# Altium footprint library biblioteca_acionador.PcbLib: 15 footprints
Each footprint in its own frame and in the unit in brackets; x right, y up, seen from the top. Pads: shape width x height; smd on the part's side, far side on the other; paste and mask are expansions set on the pad; w line width, h text height; cw(c..) or ccw(c..) is an arc to the next point about the centre after c.
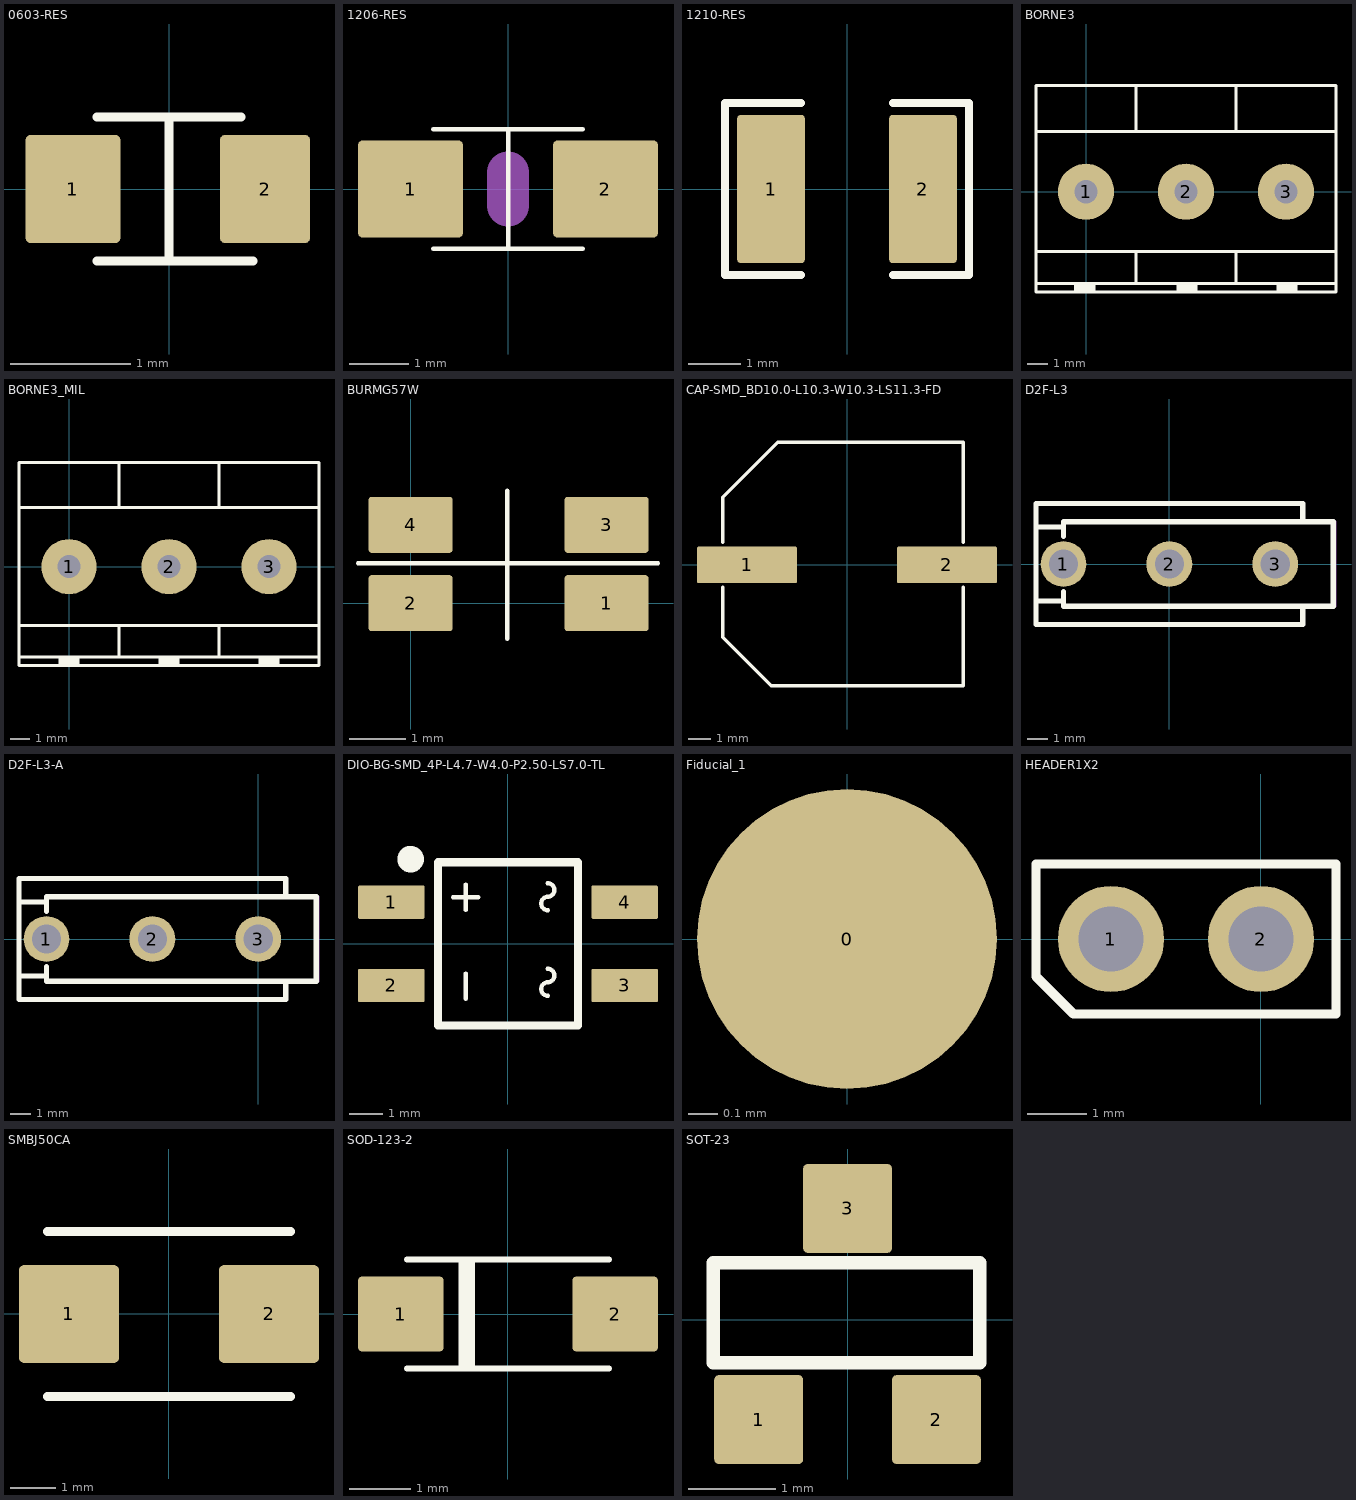
[diagram p0: the footprints below, top view; thin cyan lines are the x and y axes]

## 0603-RES [mm]
height 0.55
pads (2):
  rrect10% 0.79x0.9 smd: 1(-0.8,0)
  rrect10% 0.75x0.9 smd: 2(0.8,0)
Top Overlay:
  lines w0.076: -0.6,-0.6 0.7,-0.6 ; -0.6,0.6 0.6,0.6 ; 0,-0.6 0,0 0,0.6
3D body "RES0603.STEP": height 0.45, standoff 0, extent -0.813,-0.406 0.787,0.394

## 1206-RES [mil]
pads (2):
  rrect10% 70x65 smd: 1(-65,0) 2(65,0)
Top Overlay:
  lines w3: -50,-40 0,-40 ; -50,40 0,40 ; 50,-40 0,-40 ; 50,40 0,40 ; 0,-40 0,0 0,40
Mechanical 2:
  lines w28: 0,-11 0,11
Mechanical 15:
  rectangle: -100,-26 -30,27
  rectangle: 30,-26 100,27
3D body "RES-SMD-1206.STEP": height 39.45, standoff 0, extent -63.39,-31.89 62.6,31.1

## 1210-RES [mm]
pads (2):
  rrect10% 1.283x2.808 smd paste-100 mask+0.051: 1(-1.441,0) 2(1.441,0)
Top Overlay:
  lines w0.152: -0.876,-1.633 -2.311,-1.633 -2.311,1.633 -0.876,1.633 ; 0.876,-1.633 2.311,-1.633 2.311,1.633 0.876,1.633
Top Paste:
  region: 0.8,-1.304 0.8,-0.577 0.9,-0.477 1.136,-0.477 1.236,-0.377 1.236,0.377 1.136,0.477 0.9,0.477 0.8,0.577 0.8,1.304 0.9,1.404 1.983,1.404 2.083,1.304 2.083,-1.304 1.983,-1.404 0.9,-1.404
  region: -0.8,-1.304 -0.8,-0.577 -0.9,-0.477 -1.136,-0.477 -1.236,-0.377 -1.236,0.377 -1.136,0.477 -0.9,0.477 -0.8,0.577 -0.8,1.304 -0.9,1.404 -1.983,1.404 -2.083,1.304 -2.083,-1.304 -1.983,-1.404 -0.9,-1.404
3D body "RES1210.STEP": height 0.6, standoff 0, extent -1.575,-1.27 1.625,1.23

## BORNE3 [mm]
pads (3):
  round 2.8 hole 1.168: 1(0,0) 2(5,0) 3(10,0)
Top Overlay:
  rectangle: 4.52,-5.03 5.58,-4.63
  rectangle: -0.59,-4.98 0.47,-4.58
  rectangle: 9.52,-5.03 10.58,-4.63
  lines w0.152: -2.5,-4.6 12.5,-4.6 ; -2.5,-3 12.5,-3 ; -2.5,3 12.5,3 ; 2.5,-4.6 2.5,-3 ; 2.5,3 2.5,5.3 ; 7.5,-4.6 7.5,-3 ; 7.5,3 7.5,5.3 ; -2.5,-5.01 12.5,-5.01 12.5,5.3 -2.5,5.3 -2.5,-5.01
3D body "borne.step": height 14.2, standoff -3.5, extent 2.4,-4.8 8,5.4
3D body "borne.step": height 14.2, standoff -3.5, extent -2.6,-4.8 3,5.4
3D body "borne.step": height 14.2, standoff -3.5, extent 7.4,-4.8 13,5.4

## BORNE3_MIL [mm]
pads (3):
  round 2.8 hole 1.168: 1(0,0) 2(5.08,0) 3(10.16,0)
Top Overlay:
  rectangle: 9.63,-5.03 10.69,-4.63
  rectangle: -0.53,-4.98 0.53,-4.58
  rectangle: 4.55,-5.03 5.61,-4.63
  lines w0.152: -2.54,-4.6 12.7,-4.6 ; -2.54,-3 12.7,-3 ; -2.54,3 12.7,3 ; 2.54,-4.6 2.54,-3 ; 2.54,3 2.54,5.3 ; 7.62,-4.6 7.62,-3 ; 7.62,3 7.62,5.3 ; -2.54,-5.01 -2.54,5.3 12.7,5.3 12.7,-5.01 -2.54,-5.01
3D body "borne.step": height 14.2, standoff -3.5, extent 7.7,-4.8 13.3,5.4
3D body "borne.step": height 14.2, standoff -3.5, extent -2.46,-4.8 3.14,5.4
3D body "borne.step": height 14.2, standoff -3.5, extent 2.62,-4.8 8.22,5.4

## BURMG57W [mm]
pads (4):
  rrect10% 1.5x1 smd paste+0 mask+0.051: 1(3.5,0) 2(0,0) 3(3.5,1.4) 4(0,1.4)
Top Overlay:
  lines w0.076: -0.94,0.711 4.42,0.711 ; 1.727,-0.635 1.727,2.007
3D body "BURMG57W-05.step": height 0.54, standoff 0.01, extent -0.025,-0.662 3.175,2.038

## CAP-SMD_BD10.0-L10.3-W10.3-LS11.3-FD [mm]
pads (2):
  rrect10% 4.5x1.65 smd paste+0 mask+0.051: 1(-4.5,0) 2(4.5,0)
Top Overlay:
  lines w0.152: -5.588,-1.005 -5.588,-3.251 -3.404,-5.436 5.226,-5.436 5.226,-1.005 ; -5.588,1.005 -5.588,3.048 -3.124,5.512 5.226,5.512 5.226,1.005
Mechanical 15:
  region: 4.841,0.155 4.841,-0.155 3.605,-0.155 3.605,0.155
  region: -4.841,0.155 -4.841,-0.155 -3.605,-0.155 -3.605,0.155
3D body "UUX1A471MNL6GS.step": height 10.51, standoff 0, extent -6.125,-5.25 6.075,5.25

## D2F-L3 [mm]
pads (3):
  round 2.2 hole 1.4 paste+0 mask+0.051: 1(-5.08,0) 2(0,0) 3(5.08,0)
Top Overlay:
  lines w0.254: -6.35,-1.778 -5.08,-1.778 ; -6.35,1.778 -5.08,1.778 ; -5.08,-1.331 -5.08,-2.032 7.874,-2.032 7.874,2.032 -5.08,2.032 -5.08,1.331 ; 6.4,-2.032 6.4,-2.9 -6.4,-2.9 -6.4,2.9 6.4,2.9 6.4,2.032
Mechanical 15:
  region: -5.05,2.15 7.9,2.15 8,2.05 8,-2.05 7.9,-2.15 -5.05,-2.15 -5.05,-1.95 7.8,-1.95 7.8,1.95 -5.05,1.95
3D body "D2F-L3.step": height 12.8, standoff -3.1, extent -9.935,-2.881 6.379,2.819

## D2F-L3-A [mm]
pads (3):
  round 2.2 hole 1.4 paste+0 mask+0.051: 1(-10.16,0) 2(-5.08,0) 3(0,0)
Top Overlay:
  lines w0.254: -11.43,-1.778 -10.16,-1.778 ; -11.43,1.778 -10.16,1.778 ; -10.16,-1.331 -10.16,-2.032 2.794,-2.032 2.794,2.032 -10.16,2.032 -10.16,1.331 ; 1.32,-2.032 1.32,-2.9 -11.48,-2.9 -11.48,2.9 1.32,2.9 1.32,2.032
Mechanical 15:
  region: -10.13,2.15 2.82,2.15 2.92,2.05 2.92,-2.05 2.82,-2.15 -10.13,-2.15 -10.13,-1.95 2.72,-1.95 2.72,1.95 -10.13,1.95
3D body "D2F-L3-A.step": height 5.75, standoff -3.6, extent -11.459,-0.279 4.855,15.145

## DIO-BG-SMD_4P-L4.7-W4.0-P2.50-LS7.0-TL [mm]
pads (4):
  rrect10% 2x1 smd paste+0 mask+0.051: 1(-3.5,1.25) 2(-3.5,-1.25) 3(3.5,-1.25) 4(3.5,1.25)
Top Overlay:
  circle w0.4: c-2.921,2.54 r0.2
  lines w0.127: -1.651,1.397 -0.889,1.397 ; -1.27,-1.651 -1.27,-0.889 ; -1.27,1.016 -1.27,1.778 ; 1.187,-1.153 ccw(c1.187,-0.95) 1.187,-0.746 ; 1.187,1.413 ccw(c1.187,1.616) 1.187,1.819 ; 1.2,-1.559 cw(c1.2,-1.356) 1.2,-1.153 ; 1.2,1.006 cw(c1.2,1.209) 1.2,1.413
  lines w0.254: -2.1,-2.45 2.1,-2.45 2.1,2.45 -2.1,2.45 -2.1,-2.45
Mechanical 15:
  circle w0.4: c-2.921,1.27 r0.2
3D body "HD04-T.stp": height 2.7, standoff 0, extent -3.5,-2.35 3.5,2.35

## Fiducial_1 [mil] "Ponto Fiducuial"
pads (1):
  round 40 smd paste-20 mask+39.37: 0(0,0)

## HEADER1X2 [mm]
pads (2):
  round 1.8 hole 1.1: 1(-2.54,0) 2(0,0)
Top Overlay:
  lines w0.152: -3.81,-0.635 -3.175,-1.27 1.27,-1.27 1.27,1.27 -3.81,1.27 -3.81,-0.635
3D body "Pin header jumper v2.step": height 17, standoff -2.84, extent -3.81,-1.27 1.27,1.27

## SMBJ50CA [mm]
pads (2):
  rrect10% 2.2x2.15 smd paste+0 mask+0.051: 1(-2.2,0) 2(2.2,0)
Top Overlay:
  lines w0.2: -2.675,-1.812 2.675,-1.812 ; -2.675,1.812 2.675,1.812
3D body "SMBJ24CA.step": height 2.15, standoff 0, extent -2.65,-1.803 2.65,1.747

## SOD-123-2 [mm]
pads (2):
  rrect10% 1.4x1.22 smd paste+0 mask+0.051: 1(-1.75,0) 2(1.75,0)
Top Overlay:
  lines w0.1: -1.651,-0.889 1.651,-0.889 ; -1.651,0.889 1.651,0.889 ; -0.762,-0.889 -0.762,0.889 ; -0.674,-0.889 -0.674,0.889 ; -0.587,-0.889 -0.587,0.889
3D body "MMSZ5235B.step": height 1.19, standoff 0, extent -1.875,-0.775 1.825,0.775

## SOT-23 [mil]
pads (3):
  rrect10% 40x40 smd: 1(-40,-45) 2(40,-45) 3(0,50)
Top Overlay:
  lines w6: -60.5,-19.5 -60.5,25.5 59.5,25.5 59.5,-19.5 -60.5,-19.5
3D body "SW3DPS-SOT-23-DEFAULT.STEP": height 42.85, standoff -0.45, extent -59.05,-48.21 59.06,50.22